# Altium footprint library XT30-M.PcbLib: 1 footprints
Each footprint in its own frame and in the unit in brackets; x right, y up, seen from the top. Pads: shape width x height; smd on the part's side, far side on the other; paste and mask are expansions set on the pad; w line width, h text height; cw(c..) or ccw(c..) is an arc to the next point about the centre after c.
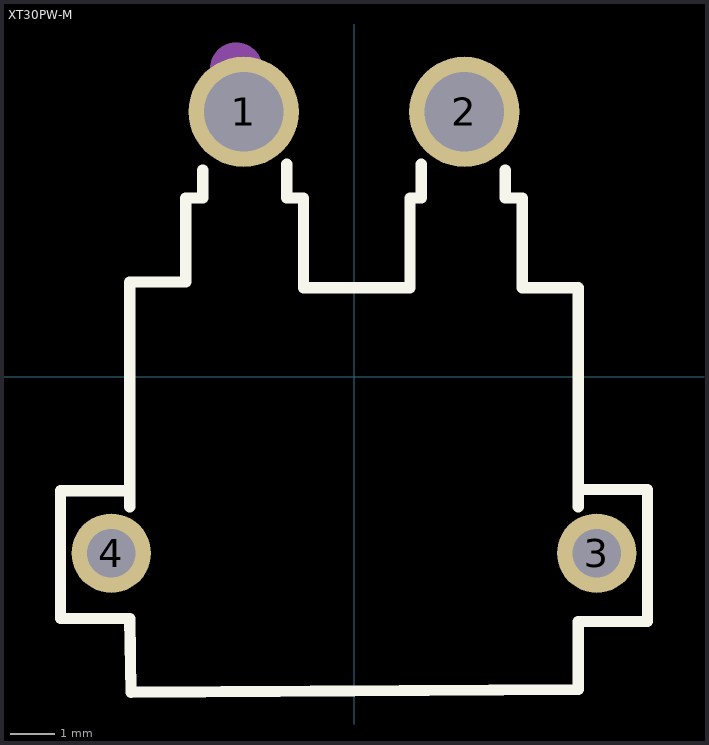
[diagram p0: the footprint, top view; thin cyan lines are the x and y axes]

## XT30PW-M [mm]
pads (4):
  round 2.5 hole 1.8: 1(-2.5,6.004) 2(2.5,6.004)
  round 1.8 hole 1.1: 3(5.5,-3.996) 4(-5.5,-3.996)
Top Overlay:
  lines w0.254: -5.08,-5.477 -5.05,-7.146 5.08,-7.087 5.08,-5.546 6.65,-5.546 6.65,-2.556 5.08,-2.556 ; -5.08,-5.477 -6.65,-5.477 -6.65,-2.581 -5.08,-2.581 ; -5.08,-2.946 -5.08,1.051 -5.08,2.147 -3.81,2.147 -3.81,4.052 -3.429,4.052 -3.429,4.687 ; -1.524,4.814 -1.524,4.052 -1.143,4.052 -1.143,2.02 1.27,2.02 1.27,4.052 1.524,4.052 1.524,4.814 ; 3.429,4.687 3.429,4.052 3.81,4.052 3.81,2.02 5.08,2.02 5.08,1.051 5.08,-2.946
Mechanical 15:
  circle w0.6: c-2.667,6.973 r0.3
3D body "Amass_XT30PW-M_pcb solder.stp": height 5.17, standoff -3.28, extent -6.65,-6.968 6.65,6.982